# Altium footprint library SON65P300X300X80-9N.PcbLib: 1 footprints
Each footprint in its own frame and in the unit in brackets; x right, y up, seen from the top. Pads: shape width x height; smd on the part's side, far side on the other; paste and mask are expansions set on the pad; w line width, h text height; cw(c..) or ccw(c..) is an arc to the next point about the centre after c.
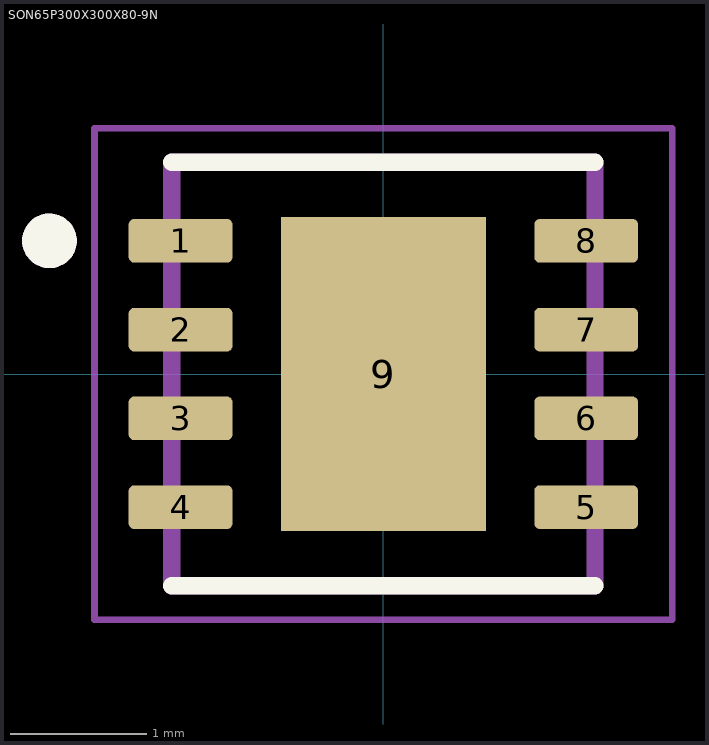
[diagram p0: the footprint, top view; thin cyan lines are the x and y axes]

## SON65P300X300X80-9N [mm]
pads (9):
  rrect25% 0.76x0.32 smd: 1(-1.485,0.975) 2(-1.485,0.325) 3(-1.485,-0.325) 4(-1.485,-0.975) 5(1.485,-0.975) 6(1.485,-0.325) 7(1.485,0.325) 8(1.485,0.975)
  rect 1.5x2.3 smd paste-2: 9(0,0)
Top Overlay:
  circle w0.2: c-2.445,0.975 r0.1
  lines w0.127: -1.55,-1.55 1.55,-1.55 ; -1.55,1.55 1.55,1.55
Top Paste:
  region: 0.47,-0.73 -0.47,-0.73 -0.47,0.73 0.47,0.73
Mechanical 13:
  circle w0.2: c-2.445,0.975 r0.1
  lines w0.127: -1.55,-1.55 -1.55,1.55 1.55,1.55 1.55,-1.55 -1.55,-1.55
Mechanical 15:
  lines w0.05: -2.115,-1.8 -2.115,1.8 2.115,1.8 2.115,-1.8 -2.115,-1.8